# Altium footprint library ILI9341_Display.PcbLib: 1 footprints
Each footprint in its own frame and in the unit in brackets; x right, y up, seen from the top. Pads: shape width x height; smd on the part's side, far side on the other; paste and mask are expansions set on the pad; w line width, h text height; cw(c..) or ccw(c..) is an arc to the next point about the centre after c.
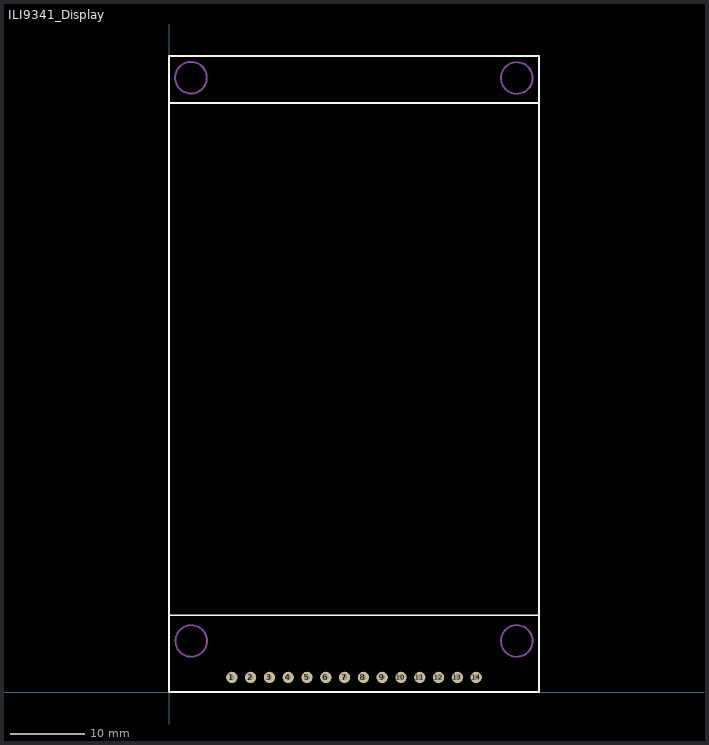
[diagram p0: the footprint, top view; thin cyan lines are the x and y axes]

## ILI9341_Display [mil]
pads (14):
  round 60 hole 30: 1(334.25,78.74) 2(434.25,78.74) 3(534.25,78.74) 4(634.25,78.74) 5(734.25,78.74) 6(834.25,78.74) 7(934.25,78.74) 8(1034.25,78.74) 9(1134.25,78.74) 10(1234.25,78.74) 11(1334.25,78.74) 12(1434.25,78.74) 13(1534.25,78.74) 14(1634.25,78.74)
Top Overlay:
  lines w10: 0,409.45 1968.5,409.45 ; 0,3133.86 1968.5,3133.86 ; 0,0 1968.5,0 1968.5,3385.83 0,3385.83 0,0
Mechanical 1:
  circle w10: c1850.39,3267.72 r84.21
  circle w10: c116.81,3269.57 r84.21
  circle w10: c1850.39,272.44 r84.2
  circle w10: c118.11,272.44 r83.73
3D body "ecran.step": height 196.85, standoff 0, extent -9.25,10 1959.25,3395.83